# EAGLE library part STM32G030F8P6 (library jacdac)
STM32G030F6P6 TSSOP-20 JLC724040
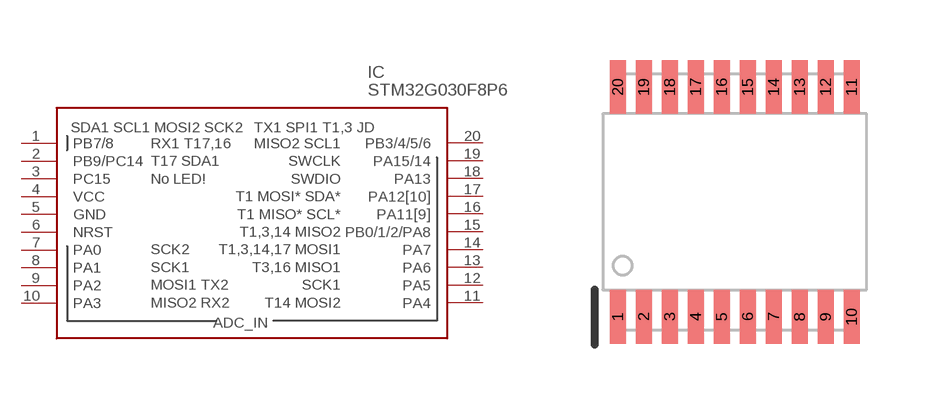
[diagram p1: symbol with the pads of SOP65P640X120-20N; footprint SOP65P640X120-20N]

Designator prefix IC

## STM32G030F8P6  [SOP65P640X120-20N]
1  PB7/8  in
2  PB9/PC14
3  PC15
4  VCC  sup
5  GND  sup
6  NRST
7  PA0
8  PA1
9  PA2
10  PA3
11  PA4
12  PA5
13  PA6
14  PA7
15  PB0/1/2/PA8  in
16  PA11[9]  in
17  PA12[10]
18  PA13
19  PA15/14
20  PB3/4/5/6

## Footprint SOP65P640X120-20N (pad centres in mm)
TSSOP20
smd 0.4 x 1.35: 1 -2.925,-2.875; 2 -2.275,-2.875; 3 -1.625,-2.875; 4 -0.975,-2.875; 5 -0.325,-2.875; 6 0.325,-2.875; 7 0.975,-2.875; 8 1.625,-2.875; 9 2.275,-2.875; 10 2.925,-2.875; 11 2.925,2.875; 12 2.275,2.875; 13 1.625,2.875; 14 0.975,2.875; 15 0.325,2.875; 16 -0.325,2.875; 17 -0.975,2.875; 18 -1.625,2.875; 19 -2.275,2.875; 20 -2.925,2.875